# Altium footprint library components.PcbLib: 11 footprints
Each footprint in its own frame and in the unit in brackets; x right, y up, seen from the top. Pads: shape width x height; smd on the part's side, far side on the other; paste and mask are expansions set on the pad; w line width, h text height; cw(c..) or ccw(c..) is an arc to the next point about the centre after c.
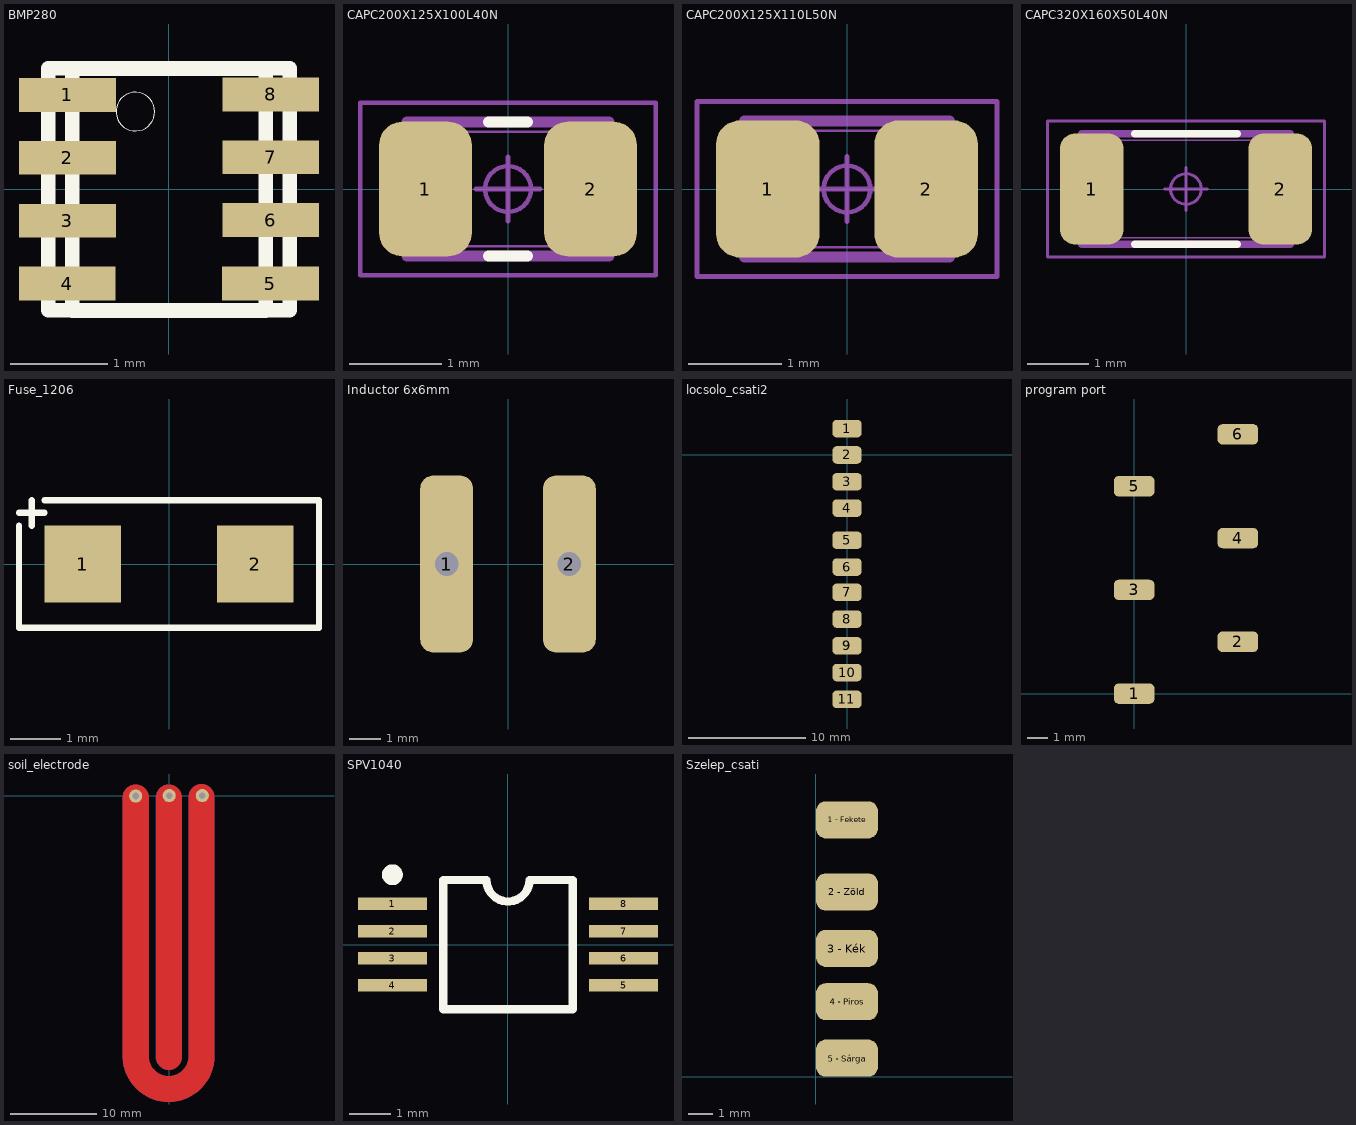
[diagram p0: the footprints below, top view; thin cyan lines are the x and y axes]

## BMP280 [mm]
height 0.95
pads (8):
  rect 1x0.35 smd: 1(-1.049,0.975) 2(-1.049,0.325) 3(-1.049,-0.325) 4(-1.05,-0.975) 5(1.05,-0.975) 6(1.051,-0.319) 7(1.051,0.331) 8(1.051,0.981)
Top Overlay:
  circle w0.01: c-0.346,0.803 r0.2
  lines w0.15: -1.25,-1.25 1.25,-1.25 1.25,1.25 -1.25,1.25 -1.25,-1.25 ; -0.997,-1.254 -0.997,1.246 1.003,1.246 1.003,-1.254 -0.997,-1.254

## CAPC200X125X100L40N [mm] "Capacitor, Chip; 2.00 mm L X 1.25 mm W X 1.00 mm H body"
height 1
pads (2):
  rrect50% 1.01x1.47 smd: 1(-0.9,0) 2(0.9,0)
Top Overlay:
  lines w0.12: -0.215,-0.73 0.215,-0.73 ; -0.215,0.73 0.215,0.73
Mechanical 11:
  lines w0.12: -1.1,-0.73 -1.1,0.73 1.1,0.73 1.1,-0.73 -1.1,-0.73
Mechanical 12:
  lines w0.025: -1,-0.625 -0.6,-0.625 -0.6,0.625 -1,0.625 ; -1,-0.625 -1,0.625 ; -1,-0.625 -1,0.625 ; -1,-0.625 1,-0.625 ; -1,0.625 1,0.625 ; 1,-0.625 1,0.625 ; 1,-0.625 0.6,-0.625 0.6,0.625 1,0.625 ; 1,-0.625 1,0.625
Mechanical 15:
  circle w0.05: c0,0 r0.25
  lines w0.05: -0.35,0 0.35,0 ; 0,-0.35 0,0.35 ; -1.61,-0.94 -1.61,0.94 1.61,0.94 1.61,-0.94 -1.61,-0.94
3D body: height 0.25, standoff 0, extent 0,0 0.254,0.254
3D body "CAPC200X125X100L40.STEP": height 1, standoff 0, extent -1,-0.625 1,0.625

## CAPC200X125X110L50N [mm] "Capacitor, Chip; 2.00 mm L X 1.25 mm W X 1.10 mm H body"
height 1.1
pads (2):
  rrect45% 1.11x1.47 smd: 1(-0.85,0) 2(0.85,0)
Mechanical 11:
  lines w0.12: -1.1,-0.73 1.1,-0.73 1.1,0.73 -1.1,0.73 -1.1,-0.73
Mechanical 12:
  lines w0.025: -1,-0.625 1,-0.625 ; -1,-0.625 -1,0.625 ; -1,-0.625 -1,0.625 ; -1,-0.625 -0.5,-0.625 -0.5,0.625 -1,0.625 ; -1,0.625 1,0.625 ; 1,-0.625 1,0.625 ; 1,-0.625 0.5,-0.625 0.5,0.625 1,0.625 ; 1,-0.625 1,0.625
Mechanical 15:
  circle w0.05: c0,0 r0.25
  lines w0.05: -0.35,0 0.35,0 ; 0,-0.35 0,0.35 ; -1.61,-0.94 1.61,-0.94 1.61,0.94 -1.61,0.94 -1.61,-0.94
3D body: height 0.25, standoff 0, extent 0,0 0.254,0.254
3D body "CAPC200X125X110L50.STEP": height 1.1, standoff 0, extent -1,-0.625 1,0.625
3D body "CAPC200X125X110L50.STEP": height 1.1, standoff 0, extent -1,-0.625 1,0.625

## CAPC320X160X50L40N [mm] "Capacitor, Chip; 3.20 mm L X 1.60 mm W X 0.50 mm H body"
height 0.5
pads (2):
  rrect48% 1.04x1.82 smd: 1(-1.54,0) 2(1.54,0)
Top Overlay:
  lines w0.12: -0.84,-0.9 0.84,-0.9 ; -0.84,0.9 0.84,0.9
Mechanical 11:
  lines w0.12: -1.7,-0.9 -1.7,0.9 1.7,0.9 1.7,-0.9 -1.7,-0.9
Mechanical 12:
  lines w0.025: -1.6,-0.8 -1.2,-0.8 -1.2,0.8 -1.6,0.8 ; -1.6,-0.8 -1.6,0.8 ; -1.6,-0.8 -1.6,0.8 ; -1.6,-0.8 1.6,-0.8 ; -1.6,0.8 1.6,0.8 ; 1.6,-0.8 1.6,0.8 ; 1.6,-0.8 1.2,-0.8 1.2,0.8 1.6,0.8 ; 1.6,-0.8 1.6,0.8
Mechanical 15:
  circle w0.05: c0,0 r0.25
  lines w0.05: -0.35,0 0.35,0 ; 0,-0.35 0,0.35 ; -2.26,-1.11 -2.26,1.11 2.26,1.11 2.26,-1.11 -2.26,-1.11
3D body: height 0.25, standoff 0, extent 0,0 0.254,0.254
3D body "CAPC320X160X50L40.STEP": height 0.5, standoff 0, extent -1.6,-0.8 1.6,0.8

## Fuse_1206 [mil]
pads (2):
  rect 60x60 smd: 1(-67.5,0) 2(67.5,0)
Top Overlay:
  lines w5: -117.5,30 -117.5,-50 117.5,-50 117.5,50 -97.5,50 ; -117.5,40 -97.5,40 ; -107.5,30 -107.5,50

## Inductor 6x6mm [mm]
pads (2):
  rrect50% 1.7x5.7 hole 0.762: 1(-1.975,0) 2(1.975,0)

## locsolo_csati2 [mm]
pads (12):
  rrect50% 2.5x1.5 smd: 1(0,2.25) 2(0,0) 3(0,-2.286) 4(0,-4.536) 5(0,-7.286) 6(0,-9.572) 7(0,-11.731) 8(0,-14.017) 9(0,-16.303) 9(0,-16.303) 10(0,-18.589) 11(-0.002,-20.876)

## program port [mm]
pads (6):
  rrect50% 2x1 smd: 1(0,0) 2(5.08,2.54) 3(0,5.08) 4(5.08,7.62) 5(0,10.16) 6(5.08,12.7)

## soil_electrode [mil]
pads (3):
  round 60 hole 30: GND(-151.39,-0.97) GND(151.39,0.97) signal(0.8,0.97)
Top Layer:
  lines w10: 148.07,-4.83 157.07,-4.83
  lines w118.11: -150.93,-6.83 -150.93,-1181.45 ccw(c-1.34,-1181.45) 148.27,-1181.45 ; -0.93,-1186.83 -0.93,-6.83 ; 148.07,-1181.45 148.07,-4.83
Bottom Layer:
  lines w10: 147.07,-4.83 157.07,-4.83
  lines w11.81: -1.93,-6.83 -1.93,16.81
  lines w118.11: -151.93,-6.83 -151.93,-1181.45 ccw(c-2.34,-1181.45) 147.27,-1181.45 ; -1.93,-1186.83 -1.93,-6.83 ; 147.07,-1181.45 147.07,-4.83

## SPV1040 [mm]
pads (8):
  rect 1.65x0.3 smd: 1(-2.775,0.975) 2(-2.775,0.325) 3(-2.775,-0.325) 4(-2.775,-0.975) 5(2.775,-0.975) 6(2.775,-0.325) 7(2.775,0.325) 8(2.775,0.975)
Top Overlay:
  circle w0.25: c-2.775,1.675 r0.125
  lines w0.2: -1.55,-1.55 1.55,-1.55 1.55,1.55 0.517,1.55 cw(c0,1.55) -0.517,1.55 -1.55,1.55 -1.55,-1.55

## Szelep_csati [mm]
pads (5):
  rrect50% 2.5x1.5 smd: "1 - Fekete"(1.27,10.414) "2 - Zöld"(1.27,7.493) "3 - Kék"(1.27,5.207) "4 - Piros"(1.27,3.048) "5 - Sárga"(1.27,0.762)